# Altium footprint library BridgeC.PcbLib: 38 footprints (part 3 of 3)
Each footprint in its own frame and in the unit in brackets; x right, y up, seen from the top. Pads: shape width x height; smd on the part's side, far side on the other; paste and mask are expansions set on the pad; w line width, h text height; cw(c..) or ccw(c..) is an arc to the next point about the centre after c.
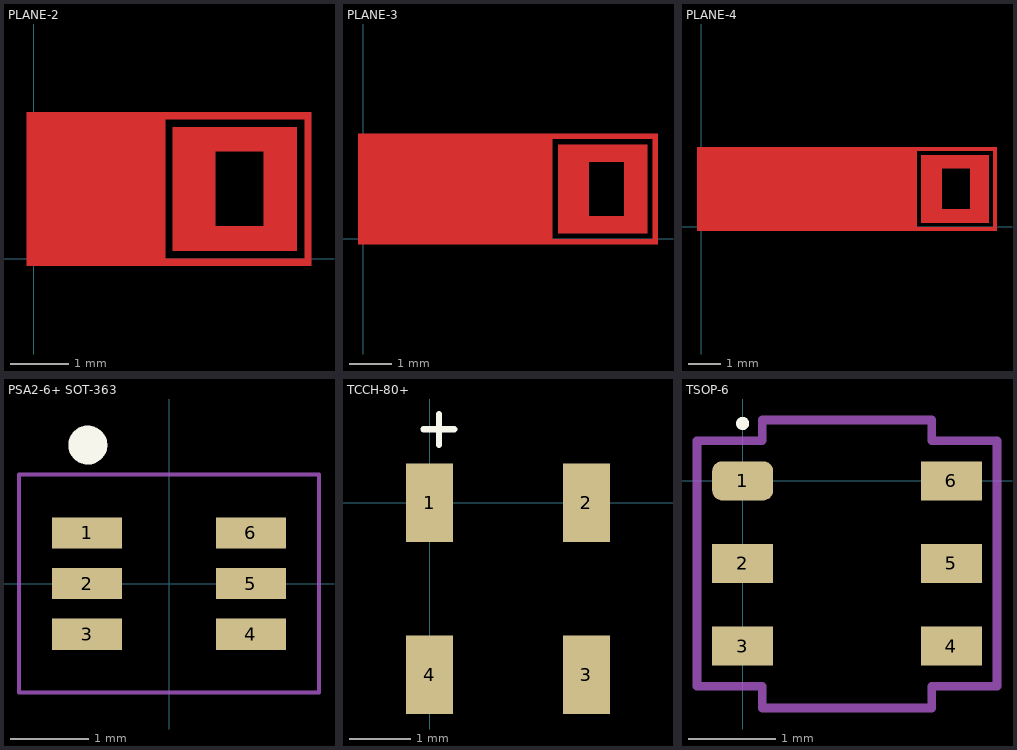
[diagram p2: the footprints below, top view; thin cyan lines are the x and y axes]

## PLANE-2 [mm]
Top Layer:
  rectangle: -0.125,-0.125 2.25,2.5
  rectangle: 2.375,0.125 3.103,2.25
  region: 4.5,1.83 4.5,2.25 2.375,2.25 2.375,1.83
  region: 4.5,2.25 3.923,2.25 3.923,0.125 4.5,0.125
  region: 2.375,0.552 2.375,0.125 4.5,0.125 4.5,0.552
  region: 4.75,-0.125 4.75,0 2.125,0 2.125,-0.125
  rectangle: 4.625,-0.125 4.75,2.5
  region: 4.75,2.375 4.75,2.5 2.125,2.5 2.125,2.375
  rectangle: 2.375,0.125 3.103,2.25
  region: 4.5,1.83 4.5,2.25 2.375,2.25 2.375,1.83
  region: 4.5,2.25 3.923,2.25 3.923,0.125 4.5,0.125
  region: 2.375,0.552 2.375,0.125 4.5,0.125 4.5,0.552
  rectangle: 2.125,-0.125 2.25,2.5
  region: 4.75,-0.125 4.75,0 2.125,0 2.125,-0.125
  text "2" at 3.075,0.55 h2
  text "2" at 3.075,0.55 h2
Top Solder:
  rectangle: 2.25,0 4.625,2.375
  rectangle: 2.25,0 4.625,2.375
Bottom Solder:
  rectangle: 2.25,0 4.625,2.375
  rectangle: 2.25,0 4.625,2.375

## PLANE-3 [mm]
Top Layer:
  rectangle: 4.375,-0.125 4.5,2.5
  rectangle: 2.125,-0.125 2.25,2.5
  region: 7,2.375 7,2.5 4.375,2.5 4.375,2.375
  rectangle: 4.625,0.125 5.356,2.25
  region: 6.75,1.83 6.75,2.25 4.625,2.25 4.625,1.83
  region: 6.75,2.25 6.189,2.25 6.189,0.125 6.75,0.125
  region: 4.625,0.552 4.625,0.125 6.75,0.125 6.75,0.552
  region: 7,-0.125 7,0 4.375,0 4.375,-0.125
  rectangle: -0.125,-0.125 4.399,2.5
  region: 7,2.375 7,2.5 4.375,2.5 4.375,2.375
  rectangle: 4.625,0.125 5.356,2.25
  region: 6.75,1.83 6.75,2.25 4.625,2.25 4.625,1.83
  region: 6.75,2.25 6.189,2.25 6.189,0.125 6.75,0.125
  region: 4.625,0.552 4.625,0.125 6.75,0.125 6.75,0.552
  region: 7,-0.125 7,0 4.375,0 4.375,-0.125
  rectangle: 6.875,-0.125 7,2.5
  text "3" at 5.353,0.552 h2
  text "3" at 5.353,0.552 h2
Top Solder:
  rectangle: 4.5,0 6.875,2.375
  rectangle: 4.5,0 6.875,2.375
Bottom Solder:
  rectangle: 4.5,0 6.875,2.375
  rectangle: 4.5,0 6.875,2.375

## PLANE-4 [mm]
Top Layer:
  rectangle: 6.625,-0.125 6.75,2.5
  rectangle: 9.125,-0.125 9.25,2.5
  region: 9.25,-0.125 9.25,0 6.625,0 6.625,-0.125
  region: 6.875,0.562 6.875,0.125 9,0.125 9,0.562
  region: 9,2.25 8.413,2.25 8.413,0.125 9,0.125
  region: 9,1.83 9,2.25 6.875,2.25 6.875,1.83
  region: 9.25,2.375 9.25,2.5 6.625,2.5 6.625,2.375
  rectangle: -0.125,-0.125 6.636,2.5
  region: 9.25,-0.125 9.25,0 6.625,0 6.625,-0.125
  region: 6.875,0.562 6.875,0.125 9,0.125 9,0.562
  region: 9,1.83 9,2.25 6.875,2.25 6.875,1.83
  rectangle: 6.875,0.125 7.535,2.25
  region: 9.25,2.375 9.25,2.5 6.625,2.5 6.625,2.375
  text "4" at 7.53,0.552 h2
  text "4" at 7.53,0.552 h2
Top Solder:
  rectangle: 6.75,0 9.125,2.375
  rectangle: 6.75,0 9.125,2.375
Bottom Solder:
  rectangle: 6.75,0 9.125,2.375
  rectangle: 6.75,0 9.125,2.375

## PSA2-6+ SOT-363 [mm] "SMT MMIC, Linear, Gain Block Amplifier, DC to 7000 MHz, 50Ω, SOT-363 Style Package"
height 1
pads (6):
  rect 0.9x0.4 smd: 1(-1.05,0.65) 2(-1.05,0) 3(-1.05,-0.65) 4(1.05,-0.65) 5(1.05,0) 6(1.05,0.65)
Top Overlay:
  circle w0.25: c-1.041,1.778 r0.125
Mechanical 15:
  lines w0.05: -1.925,-1.4 1.925,-1.4 1.925,1.4 -1.925,1.4 -1.925,-1.4
3D body "PSA2-6+ SOT-363.step": height 1, standoff 0, extent -1.3,-1.125 1.3,1.125

## TCCH-80+ [mm] "GU1604 Case"
pads (4):
  rect 0.76x1.27 smd: 1(0,0) 2(2.54,0) 3(2.54,-2.79) 4(0,-2.79)
Top Overlay:
  lines w0.1: -0.102,1.194 0.398,1.194 ; 0.152,0.94 0.152,1.44
3D body "step_temp.STEP": height 3.81, standoff 0, extent -0.635,-3.302 3.175,0.508

## TSOP-6 [mm]
pads (6):
  rrect50% 0.7x0.45 smd mask+0.05: 1(0,0)
  rect 0.7x0.45 smd mask+0.05: 2(0,-0.95) 3(0,-1.9) 4(2.4,-1.9) 5(2.4,-0.95) 6(2.4,0)
Top Overlay:
  circle w0.1: c0,0.66 r0.025
Mechanical 15:
  lines w0.1: -0.525,-2.362 0.225,-2.362 0.225,-2.613 2.175,-2.613 2.175,-2.362 2.925,-2.362 2.925,0.463 2.175,0.463 2.175,0.7 0.225,0.7 0.225,0.463 -0.525,0.463 -0.525,-2.362
3D body "SOT457.step": height 1.02, standoff 0.01, extent -0.134,-2.415 2.616,0.535